# EAGLE library part ESP-WROOM-32U (library bt_esp32)
ESP-WROOM-32U ESP-WROOM-32D and ESP32-WROOM-32U are powerful, generic Wi-Fi+BT+BLE MCU modules that target a wide variety of applications, ranging from low-power sensor networks to the most demanding tasks, such as voice encoding, music streaming and MP3 decoding. ESP32-WROOM-32U is different from ESP-WROOM-32D in that ESP32-WROOM-32U integrates a U.FL connector. esp-wroom-32d_esp32-wroom-32u_datasheet_en.pdf <https://empa.com/empaiot/esp-wroom-32d_esp32-wroom-32u_datasheet_en.pdf>
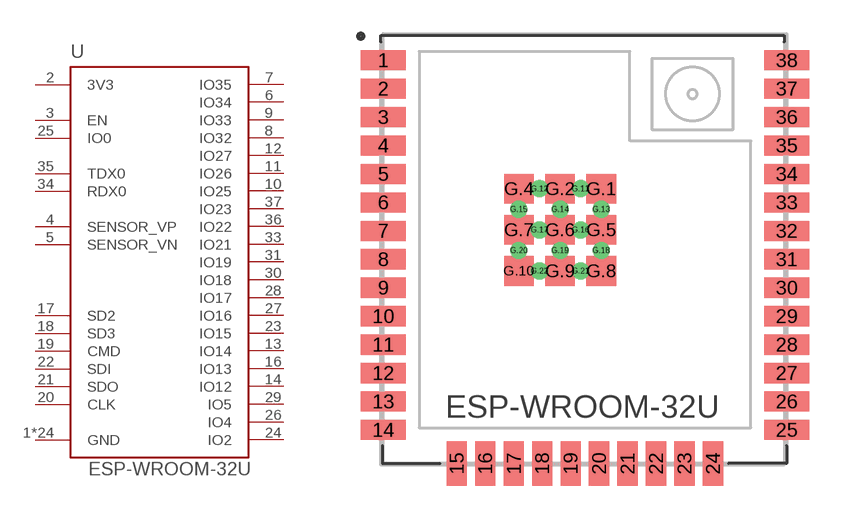
[diagram p0: symbol with the pads of ESP-WROOM-32U; footprint ESP-WROOM-32U]

Designator prefix U

## ESP-WROOM-32U  [ESP-WROOM-32U]
1  GND  sup
2  3V3  sup
3  EN
4  SENSOR_VP
5  SENSOR_VN
6  IO34
7  IO35
8  IO32
9  IO33
10  IO25
11  IO26
12  IO27
13  IO14
14  IO12
15  GND  sup
16  IO13
17  SD2
18  SD3
19  CMD
20  CLK
21  SDO
22  SDI
23  IO15
24  IO2
25  IO0
26  IO4
27  IO16
28  IO17
29  IO5
30  IO18
31  IO19
33  IO21
34  RDX0
35  TDX0
36  IO22
37  IO23
38  GND  sup
G.1  GND  sup
G.2  GND  sup
G.4  GND  sup
G.5  GND  sup
G.6  GND  sup
G.7  GND  sup
G.8  GND  sup
G.9  GND  sup
G.10  GND  sup
G.11  GND  sup
G.12  GND  sup
G.13  GND  sup
G.14  GND  sup
G.15  GND  sup
G.16  GND  sup
G.17  GND  sup
G.18  GND  sup
G.19  GND  sup
G.20  GND  sup
G.21  GND  sup
G.22  GND  sup

## Footprint ESP-WROOM-32U (pad centres in mm)
ESP-WROOM-32U Module
smd 2 x 0.9: 1 0,18.01; 2 0,16.74; 3 0,15.47; 4 0,14.2; 5 0,12.93; 6 0,11.66; 7 0,10.39; 8 0,9.12; 9 0,7.85; 10 0,6.58; 11 0,5.31; 12 0,4.04; 13 0,2.77; 14 0,1.5; 25 18,1.5; 26 18,2.77; 27 18,4.04; 28 18,5.31; 29 18,6.58; 30 18,7.85; 31 18,9.12; 32 18,10.39; 33 18,11.66; 34 18,12.93; 35 18,14.2; 36 18,15.47; 37 18,16.74; 38 18,18.01
smd 0.9 x 2: 15 3.28,0; 16 4.55,0; 17 5.83,0; 18 7.09,0; 19 8.36,0; 20 9.63,0; 21 10.9,0; 22 12.17,0; 23 13.44,0; 24 14.71,0
smd 1.33 x 1.33: G.1 9.725,12.27; G.2 7.89,12.27; G.4 6.055,12.27; G.5 9.725,10.435; G.6 7.89,10.435; G.7 6.055,10.435; G.8 9.725,8.6; G.9 7.89,8.6; G.10 6.055,8.6
drill 0.254: G.11 8.807,12.27; G.12 6.973,12.27; G.13 9.725,11.352; G.14 7.89,11.352; G.15 6.055,11.352; G.16 8.807,10.435; G.17 6.973,10.435; G.18 9.725,9.518; G.19 7.89,9.518; G.20 6.055,9.518; G.21 8.807,8.6; G.22 6.973,8.6